# EAGLE library part MAX3232 (library MAX3232)
±15kV ESD-Protected, Down to 10nA, 3.0V to 5.5V, Up to 1Mbps, True RS-232 Transceivers Check availability <https://pricing.snapeda.com/parts/MAX3232/Maxim%20Integrated/view-part?ref=eda>
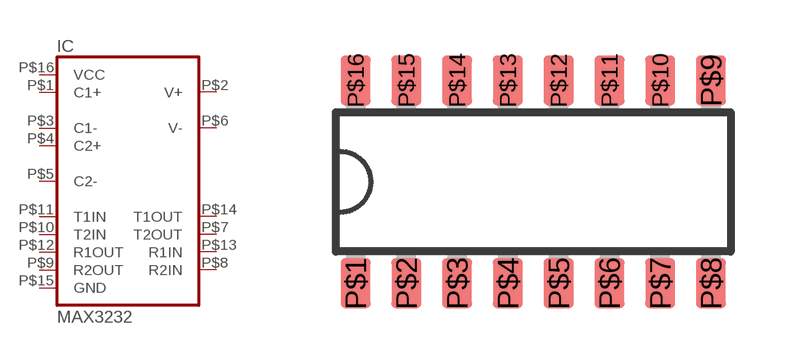
[diagram p0: symbol with the pads of SOIC16; footprint SOIC16]

Designator prefix IC

## MAX3232 (AVAILABILITY: In Stock; DESCRIPTION: 2/2 Transceiver Full RS232 16-TQFN (5x5); MF: Maxim Integrated; MP: MAX3232; PACKAGE: SOIC-16 Texas Instruments; PRICE: None; PURCHASE-URL: https://pricing.snapeda.com/search/part/MAX3232/?ref=eda)  [SOIC16]
P$1  C1+  pas
P$2  V+  pas
P$3  C1-  pas
P$4  C2+  pas
P$5  C2-  pas
P$6  V-  pas
P$7  T2OUT  out
P$8  R2IN  in
P$9  R2OUT  out
P$10  T2IN  in
P$11  T1IN  in
P$12  R1OUT  out
P$13  R1IN  in
P$14  T1OUT  out
P$15  GND  pwr
P$16  VCC  pwr

## Footprint SOIC16 (pad centres in mm)
smd 0.75 x 1.25: P$1 -4.445,-2.54; P$2 -3.175,-2.54; P$3 -1.905,-2.54; P$4 -0.635,-2.54; P$5 0.635,-2.54; P$6 1.905,-2.54; P$7 3.175,-2.54; P$8 4.445,-2.54; P$9 4.445,2.54; P$10 3.175,2.54; P$11 1.905,2.54; P$12 0.635,2.54; P$13 -0.635,2.54; P$14 -1.905,2.54; P$15 -3.175,2.54; P$16 -4.445,2.54